# EAGLE library part ATTINY25 (library ads4)
Atmel ATtiny25, ATtiny45, ATtiny85 8-bit microcontrollers
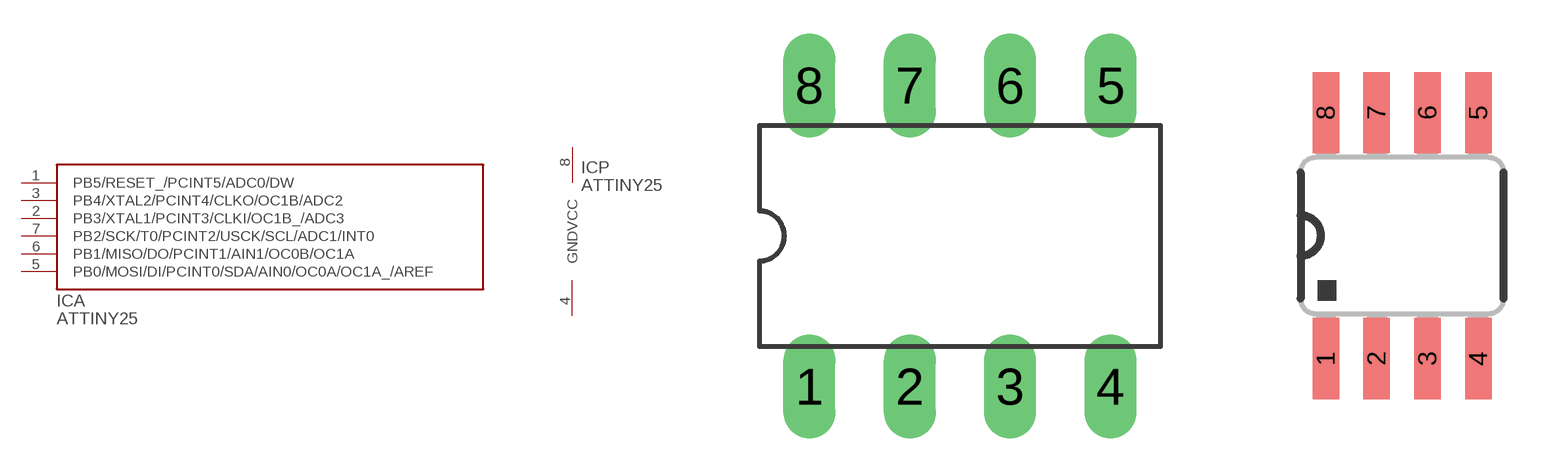
[diagram p96: symbol with the pads of DIL08; footprints DIL08, SO08]

Designator prefix IC; gates A=ATTINY25 P=POWER2

## ATTINY25P  [DIL08]
1  A:PB5/RESET_/PCINT5/ADC0/DW  in
2  A:PB3/XTAL1/PCINT3/CLKI/OC1B_/ADC3  in
3  A:PB4/XTAL2/PCINT4/CLKO/OC1B/ADC2  in
4  P:GND  pwr
5  A:PB0/MOSI/DI/PCINT0/SDA/AIN0/OC0A/OC1A_/AREF  in
6  A:PB1/MISO/DO/PCINT1/AIN1/OC0B/OC1A  in
7  A:PB2/SCK/T0/PCINT2/USCK/SCL/ADC1/INT0  in
8  P:VCC  pwr

## ATTINY25SS  [SO08]
Pads as for DIL08

## ATTINY25S  [SO-08M]
Pads as for DIL08

## Footprint DIL08 (pad centres in mm)
8-pin Dual-In Line (copied from 74xx-us.lbr)
drill 0.813 long: 1 -3.81,-3.81; 2 -1.27,-3.81; 3 1.27,-3.81; 4 3.81,-3.81; 5 3.81,3.81; 6 1.27,3.81; 7 -1.27,3.81; 8 -3.81,3.81

## Footprint SO08 (pad centres in mm)
SO08 Package from 74xx-us.lbr 0.15" body
smd 0.66 x 2.032: 1 -1.905,-3.073; 2 -0.635,-3.073; 3 0.635,-3.073; 4 1.905,-3.073; 5 1.905,3.073; 6 0.635,3.073; 7 -0.635,3.073; 8 -1.905,3.073

## Footprint SO-08M (pad centres in mm)
Small Outline Medium Plastic Gull Wing 207-mil body, package type SM Copied from ref-packages.lbr with small modifications to improve hand-soldering
smd 0.6 x 2.2: 1 -1.905,-3.73; 2 -0.635,-3.73; 3 0.635,-3.73; 4 1.905,-3.73; 5 1.905,3.73; 6 0.635,3.73; 7 -0.635,3.73; 8 -1.905,3.73